# Altium footprint library Button_Switch_THT.PcbLib: 106 footprints (part 1 of 7)
Each footprint in its own frame and in the unit in brackets; x right, y up, seen from the top. Pads: shape width x height; smd on the part's side, far side on the other; paste and mask are expansions set on the pad; w line width, h text height; cw(c..) or ccw(c..) is an arc to the next point about the centre after c.
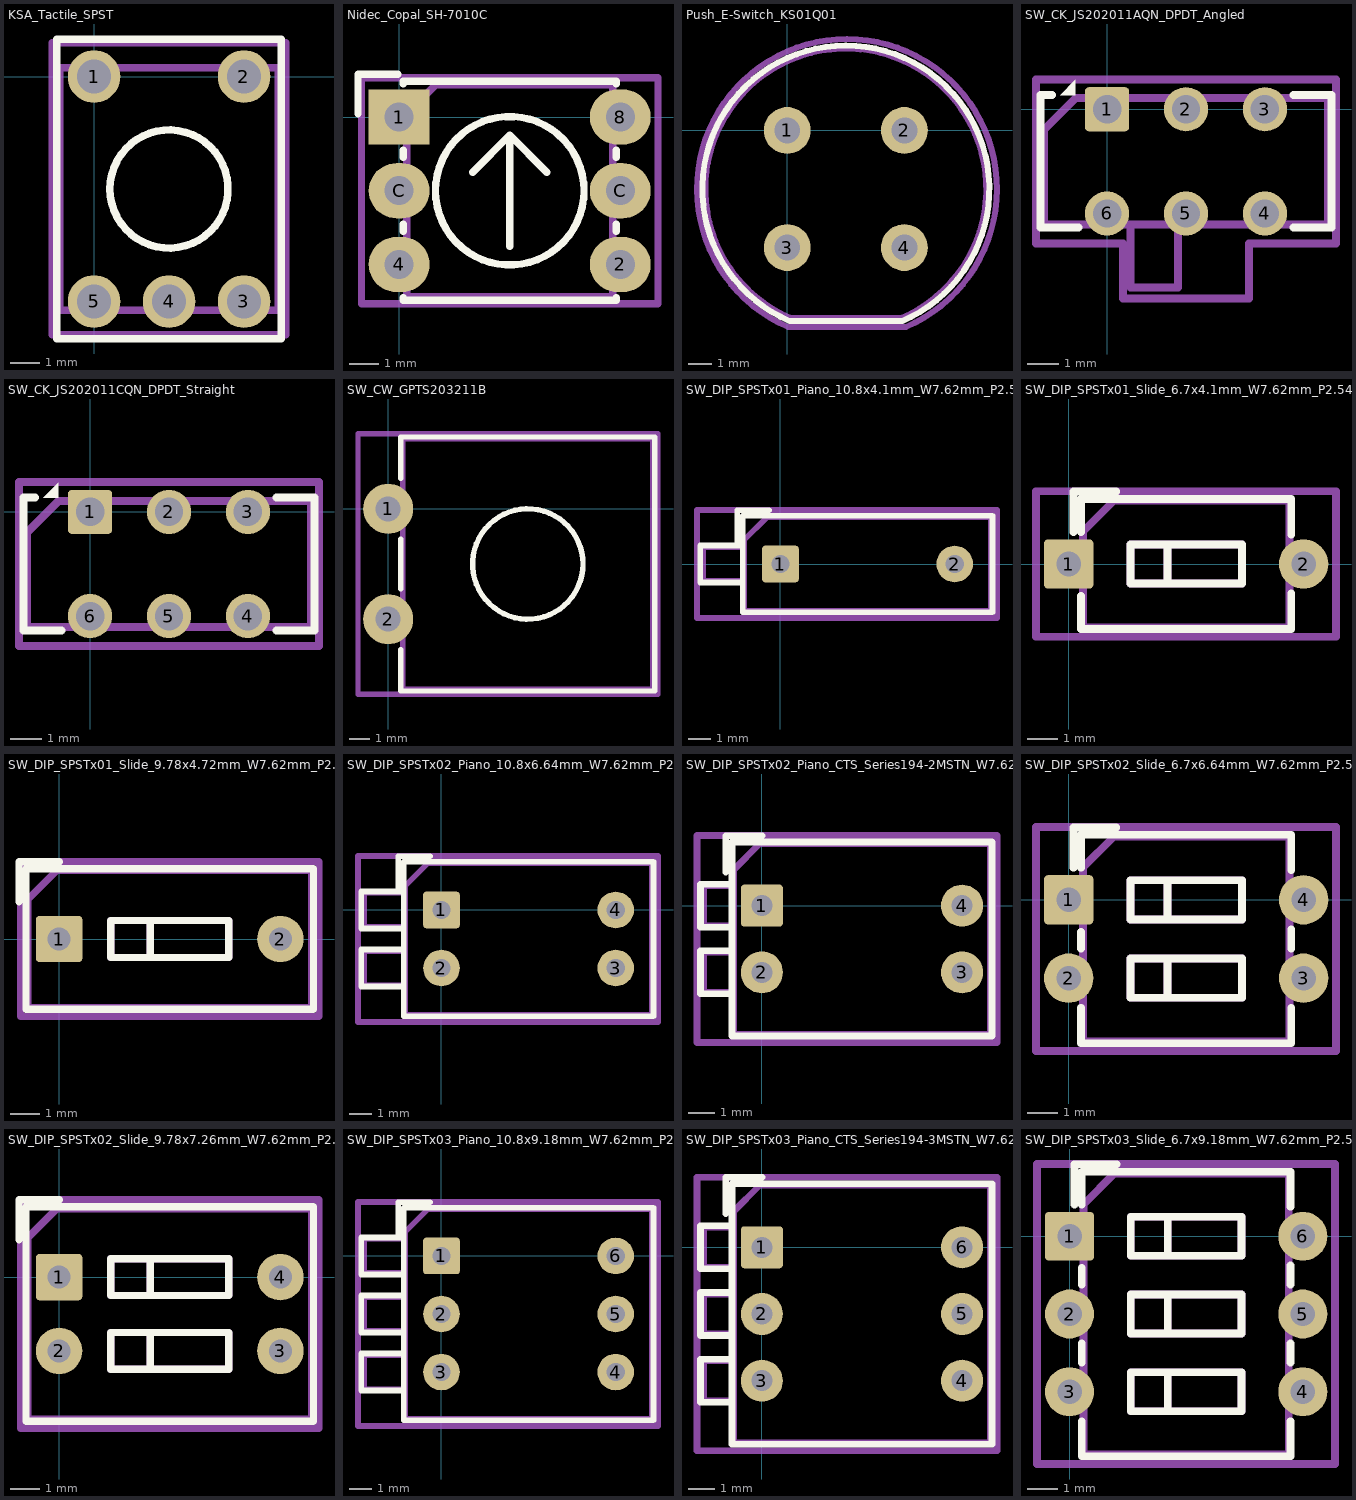
[diagram p0: the footprints below, top view; thin cyan lines are the x and y axes]

## KSA_Tactile_SPST [mil]
pads (5):
  round 70 hole 45: 1(0,0) 2(200,0) 3(200,-300) 4(100,-300) 5(0,-300)
F.SilkS:
  circle w10: c100,-150 r78.74
  lines w10: -50,-350 -50,50 250,50 250,-350 -50,-350
F.Fab:
  lines w10: -45.67,-311.42 -45.67,11.42 245.67,11.42 245.67,-311.42 -45.67,-311.42
  text "'.Designator'" at -59.32,-190.56 h39.37
F.CrtYd:
  lines w10: -55.51,-344.49 -55.51,44.88 255.51,44.88 255.51,-344.49 -55.51,-344.49

## Nidec_Copal_SH-7010C [mm]
pads (6):
  rect 2.1x1.9 hole 1: 1(0,0)
  rrect100% 2.1x1.9 hole 1: 2(7.62,-5.08) 4(0,-5.08) 8(7.62,0) C(0,-2.54) C(7.62,-2.54)
F.SilkS:
  circle w0.254: c3.81,-2.54 r2.56
  lines w0.254: -1.42,0.11 -1.42,1.48 -0.05,1.48 ; 0.14,-6.23 0.14,-6.31 7.48,-6.31 7.48,-6.23 ; 0.14,-3.93 0.14,-3.69 ; 0.14,-1.39 0.14,-1.15 ; 0.14,1.15 0.14,1.23 7.48,1.23 7.48,1.15 ; 2.53,-1.9 3.81,-0.62 ; 3.81,-4.46 3.81,-0.62 ; 5.09,-1.9 3.81,-0.62 ; 7.48,-3.93 7.48,-3.69 ; 7.48,-1.39 7.48,-1.15
F.Fab:
  lines w0.254: 0.26,-6.19 0.26,0.11 1.26,1.11 7.36,1.11 7.36,-6.19 0.26,-6.19
  text "'.Designator'" at -0.237,-3.38 h1
F.CrtYd:
  lines w0.254: -1.3,-6.44 -1.3,1.36 8.92,1.36 8.92,-6.44 -1.3,-6.44

## Push_E-Switch_KS01Q01 [mm]
pads (4):
  round 2 hole 1.1: 1(0,0) 2(5,0) 3(0,-5) 4(5,-5)
F.SilkS:
  lines w0.254: 4.89,-8.14 0.11,-8.14 cw(c2.5,-2.5) 4.897,-8.137
F.Fab:
  lines w0.254: 4.89,-8 0.11,-8 cw(c2.5,-2.5) 4.892,-7.999
  text "'.Designator'" at -1.547,-3.34 h1
F.CrtYd:
  lines w0.254: 0.04,-8.39 5.06,-8.39 ccw(c2.55,-2.5) 0.04,-8.39

## SW_CK_JS202011AQN_DPDT_Angled [mm]
pads (6):
  rrect18% 1.4x1.4 hole 0.9: 1(0,0)
  round 1.4 hole 0.9: 2(2.5,0) 3(5,0) 4(5,-3.3) 5(2.5,-3.3) 6(0,-3.3)
F.SilkS:
  region: -1,0.45 -1.48,0.45 -1,0.93
  lines w0.254: -1.75,0.45 -2.1,0.45 -2.1,-3.75 -0.9,-3.75 ; 5.9,-3.75 7.1,-3.75 7.1,0.45 5.9,0.45
F.Fab:
  lines w0.254: 0.75,-3.65 0.75,-5.65 2.25,-5.65 2.25,-3.65 ; -2,-3.65 -2,-0.65 -1,0.35 7,0.35 7,-3.65 -2,-3.65
  text "'.Designator'" at -1.547,-2.59 h1
F.CrtYd:
  lines w0.254: -2.25,-4.25 -2.25,0.95 7.25,0.95 7.25,-4.25 4.5,-4.25 4.5,-6 0.5,-6 0.5,-4.25 -2.25,-4.25

## SW_CK_JS202011CQN_DPDT_Straight [mm]
pads (6):
  rrect18% 1.4x1.4 hole 0.9: 1(0,0)
  round 1.4 hole 0.9: 2(2.5,0) 3(5,0) 4(5,-3.3) 5(2.5,-3.3) 6(0,-3.3)
F.SilkS:
  region: -1,0.45 -1.48,0.45 -1,0.93
  lines w0.254: -1.75,0.45 -2.1,0.45 -2.1,-3.75 -0.9,-3.75 ; 5.9,-3.75 7.1,-3.75 7.1,0.45 5.9,0.45
F.Fab:
  lines w0.254: -2,-3.65 -2,-0.65 -1,0.35 7,0.35 7,-3.65 -2,-3.65
  text "'.Designator'" at -1.547,-2.49 h1
F.CrtYd:
  lines w0.254: -2.25,-4.25 -2.25,0.95 7.25,0.95 7.25,-4.25 -2.25,-4.25

## SW_CW_GPTS203211B [mm]
pads (2):
  round 2.4 hole 1.2: 1(0,0) 2(0,-5.3)
F.SilkS:
  circle w0.254: c6.7,-2.65 r2.65
  lines w0.254: 0.6,-6.76 0.6,-8.75 12.8,-8.75 12.8,3.45 0.6,3.45 0.6,1.46 ; 0.6,-3.84 0.6,-1.46
F.Fab:
  lines w0.254: 0.7,-8.65 0.7,3.35 12.7,3.35 12.7,-8.65 0.7,-8.65
  text "'.Designator'" at 2.653,-3.49 h1
F.CrtYd:
  lines w0.254: -1.45,-8.9 -1.45,3.6 12.95,3.6 12.95,-8.9 -1.45,-8.9

## SW_DIP_SPSTx01_Piano_10.8x4.1mm_W7.62mm_P2.54mm [mm]
pads (2):
  rrect16% 1.6x1.6 hole 0.8: 1(0,0)
  round 1.6 hole 0.8: 2(7.62,0)
F.SilkS:
  lines w0.254: -1.89,0.967 -1.89,2.35 -0.507,2.35 ; -3.51,-0.81 -3.51,0.81 -1.65,0.81 -1.65,-0.81 -3.51,-0.81 ; -1.65,-2.11 -1.65,2.11 9.27,2.11 9.27,-2.11 -1.65,-2.11
F.Fab:
  lines w0.254: -3.39,-0.75 -3.39,0.75 -1.59,0.75 -1.59,-0.75 -3.39,-0.75 ; -1.59,-2.05 -1.59,1.05 -0.59,2.05 9.21,2.05 9.21,-2.05 -1.59,-2.05
  text "'.Designator'" at 1.382,-0.504 h0.6
F.CrtYd:
  lines w0.254: -3.65,-2.36 -3.65,2.36 9.47,2.36 9.47,-2.36 -3.65,-2.36

## SW_DIP_SPSTx01_Slide_6.7x4.1mm_W7.62mm_P2.54mm_LowProfile [mm]
pads (2):
  rrect16% 1.6x1.6 hole 0.8: 1(0,0)
  round 1.6 hole 0.8: 2(7.62,0)
F.SilkS:
  lines w0.254: 0.16,1.04 0.16,2.35 1.543,2.35 ; 0.4,-1.04 0.4,-2.11 7.22,-2.11 7.22,-0.96 ; 0.4,1.04 0.4,2.11 7.22,2.11 7.22,0.96 ; 2,-0.635 2,0.635 ; 2,-0.635 3.207,-0.635 ; 2,-0.635 2,0.635 ; 2,-0.635 5.62,-0.635 5.62,0.635 2,0.635 ; 2,0.635 3.207,0.635 ; 3.207,-0.635 3.207,0.635 ; 3.207,-0.635 3.207,0.635
F.Fab:
  lines w0.254: 2,-0.635 2,0.635 ; 2,-0.635 3.207,-0.635 ; 2,-0.635 2,0.635 ; 2,-0.635 5.62,-0.635 5.62,0.635 2,0.635 ; 2,0.635 3.207,0.635 ; 3.207,-0.635 3.207,0.635 ; 3.207,-0.635 3.207,0.635 ; 0.46,-2.05 0.46,1.05 1.46,2.05 7.16,2.05 7.16,-2.05 0.46,-2.05
  text "'.Designator'" at 6.894,-2.428 h0.6
  text "on" at 3.987,1.053 h0.6
F.CrtYd:
  lines w0.254: -1.06,-2.36 -1.06,2.36 8.67,2.36 8.67,-2.36 -1.06,-2.36

## SW_DIP_SPSTx01_Slide_9.78x4.72mm_W7.62mm_P2.54mm [mm]
pads (2):
  rrect16% 1.6x1.6 hole 0.8: 1(0,0)
  round 1.6 hole 0.8: 2(7.62,0)
F.SilkS:
  lines w0.254: -1.38,1.277 -1.38,2.66 0.003,2.66 ; 1.78,-0.635 1.78,0.635 ; 1.78,-0.635 3.133,-0.635 ; 1.78,-0.635 1.78,0.635 ; 1.78,-0.635 5.84,-0.635 5.84,0.635 1.78,0.635 ; 1.78,0.635 3.133,0.635 ; 3.133,-0.635 3.133,0.635 ; 3.133,-0.635 3.133,0.635 ; -1.14,-2.42 -1.14,2.42 8.76,2.42 8.76,-2.42 -1.14,-2.42
F.Fab:
  lines w0.254: 1.78,-0.635 1.78,0.635 ; 1.78,-0.635 3.133,-0.635 ; 1.78,-0.635 1.78,0.635 ; 1.78,-0.635 5.84,-0.635 5.84,0.635 1.78,0.635 ; 1.78,0.635 3.133,0.635 ; 3.133,-0.635 3.133,0.635 ; 3.133,-0.635 3.133,0.635 ; -1.08,-2.36 -1.08,1.36 -0.08,2.36 8.7,2.36 8.7,-2.36 -1.08,-2.36
  text "'.Designator'" at 7.774,-2.428 h0.6
  text "on" at 4.867,1.208 h0.6
F.CrtYd:
  lines w0.254: -1.33,-2.67 -1.33,2.67 8.95,2.67 8.95,-2.67 -1.33,-2.67

## SW_DIP_SPSTx02_Piano_10.8x6.64mm_W7.62mm_P2.54mm [mm]
pads (4):
  rrect16% 1.6x1.6 hole 0.8: 1(0,0)
  round 1.6 hole 0.8: 2(0,-2.54) 3(7.62,-2.54) 4(7.62,0)
F.SilkS:
  lines w0.254: -1.89,0.967 -1.89,2.35 -0.507,2.35 ; -3.51,-3.35 -3.51,-1.73 -1.65,-1.73 -1.65,-3.35 -3.51,-3.35 ; -3.51,-0.81 -3.51,0.81 -1.65,0.81 -1.65,-0.81 -3.51,-0.81 ; -1.65,-4.65 -1.65,2.11 9.27,2.11 9.27,-4.65 -1.65,-4.65
F.Fab:
  lines w0.254: -3.39,-3.29 -3.39,-1.79 -1.59,-1.79 -1.59,-3.29 -3.39,-3.29 ; -3.39,-0.75 -3.39,0.75 -1.59,0.75 -1.59,-0.75 -3.39,-0.75 ; -1.59,-4.59 -1.59,1.05 -0.59,2.05 9.21,2.05 9.21,-4.59 -1.59,-4.59
  text "'.Designator'" at 0.573,-1.942 h0.8
F.CrtYd:
  lines w0.254: -3.65,-4.9 -3.65,2.36 9.47,2.36 9.47,-4.9 -3.65,-4.9

## SW_DIP_SPSTx02_Piano_CTS_Series194-2MSTN_W7.62mm_P2.54mm [mm]
pads (4):
  rrect16% 1.6x1.6 hole 0.8: 1(0,0)
  round 1.6 hole 0.8: 2(0,-2.54) 3(7.62,-2.54) 4(7.62,0)
F.SilkS:
  lines w0.254: -1.38,1.277 -1.38,2.66 0.003,2.66 ; -2.34,-3.36 -2.34,-1.72 -1.14,-1.72 -1.14,-3.36 -2.34,-3.36 ; -2.34,-0.82 -2.34,0.82 -1.14,0.82 -1.14,-0.82 -2.34,-0.82 ; -1.14,-4.96 -1.14,2.42 8.76,2.42 8.76,-4.96 -1.14,-4.96
F.Fab:
  lines w0.254: -2.22,-3.3 -2.22,-1.78 -1.08,-1.78 -1.08,-3.3 -2.22,-3.3 ; -2.22,-0.76 -2.22,0.76 -1.08,0.76 -1.08,-0.76 -2.22,-0.76 ; -1.08,-4.9 -1.08,1.36 -0.08,2.36 8.7,2.36 8.7,-4.9 -1.08,-4.9
  text "'.Designator'" at 0.573,-1.942 h0.8
F.CrtYd:
  lines w0.254: -2.47,-5.21 -2.47,2.67 8.95,2.67 8.95,-5.21 -2.47,-5.21

## SW_DIP_SPSTx02_Slide_6.7x6.64mm_W7.62mm_P2.54mm_LowProfile [mm]
pads (4):
  rrect16% 1.6x1.6 hole 0.8: 1(0,0)
  round 1.6 hole 0.8: 2(0,-2.54) 3(7.62,-2.54) 4(7.62,0)
F.SilkS:
  lines w0.254: 0.16,1.04 0.16,2.35 1.543,2.35 ; 0.4,-3.5 0.4,-4.65 7.22,-4.65 7.22,-3.5 ; 0.4,-1.58 0.4,-1.04 ; 0.4,1.04 0.4,2.11 7.22,2.11 7.22,0.96 ; 7.22,-1.58 7.22,-0.96 ; 2,-3.175 2,-1.905 ; 2,-3.175 3.207,-3.175 ; 2,-3.175 2,-1.905 ; 2,-3.175 5.62,-3.175 5.62,-1.905 2,-1.905 ; 2,-1.905 3.207,-1.905 ; 2,-0.635 2,0.635 ; 2,-0.635 3.207,-0.635 ; 2,-0.635 2,0.635 ; 2,-0.635 5.62,-0.635 5.62,0.635 2,0.635 ; 2,0.635 3.207,0.635 ; 3.207,-3.175 3.207,-1.905 ; 3.207,-3.175 3.207,-1.905 ; 3.207,-0.635 3.207,0.635 ; 3.207,-0.635 3.207,0.635
F.Fab:
  lines w0.254: 2,-3.175 2,-1.905 ; 2,-3.175 3.207,-3.175 ; 2,-3.175 2,-1.905 ; 2,-3.175 5.62,-3.175 5.62,-1.905 2,-1.905 ; 2,-1.905 3.207,-1.905 ; 2,-0.635 2,0.635 ; 2,-0.635 3.207,-0.635 ; 2,-0.635 2,0.635 ; 2,-0.635 5.62,-0.635 5.62,0.635 2,0.635 ; 2,0.635 3.207,0.635 ; 3.207,-3.175 3.207,-1.905 ; 3.207,-3.175 3.207,-1.905 ; 3.207,-0.635 3.207,0.635 ; 3.207,-0.635 3.207,0.635 ; 0.46,-4.59 0.46,1.05 1.46,2.05 7.16,2.05 7.16,-4.59 0.46,-4.59
  text "'.Designator'" at 7.062,-4.507 h0.8
  text "on" at 3.82,0.956 h0.8
F.CrtYd:
  lines w0.254: -1.06,-4.9 -1.06,2.36 8.67,2.36 8.67,-4.9 -1.06,-4.9

## SW_DIP_SPSTx02_Slide_9.78x7.26mm_W7.62mm_P2.54mm [mm]
pads (4):
  rrect16% 1.6x1.6 hole 0.8: 1(0,0)
  round 1.6 hole 0.8: 2(0,-2.54) 3(7.62,-2.54) 4(7.62,0)
F.SilkS:
  lines w0.254: -1.38,1.277 -1.38,2.66 0.003,2.66 ; 1.78,-3.175 1.78,-1.905 ; 1.78,-3.175 3.133,-3.175 ; 1.78,-3.175 1.78,-1.905 ; 1.78,-3.175 5.84,-3.175 5.84,-1.905 1.78,-1.905 ; 1.78,-1.905 3.133,-1.905 ; 1.78,-0.635 1.78,0.635 ; 1.78,-0.635 3.133,-0.635 ; 1.78,-0.635 1.78,0.635 ; 1.78,-0.635 5.84,-0.635 5.84,0.635 1.78,0.635 ; 1.78,0.635 3.133,0.635 ; 3.133,-3.175 3.133,-1.905 ; 3.133,-3.175 3.133,-1.905 ; 3.133,-0.635 3.133,0.635 ; 3.133,-0.635 3.133,0.635 ; -1.14,-4.96 -1.14,2.42 8.76,2.42 8.76,-4.96 -1.14,-4.96
F.Fab:
  lines w0.254: 1.78,-3.175 1.78,-1.905 ; 1.78,-3.175 3.133,-3.175 ; 1.78,-3.175 1.78,-1.905 ; 1.78,-3.175 5.84,-3.175 5.84,-1.905 1.78,-1.905 ; 1.78,-1.905 3.133,-1.905 ; 1.78,-0.635 1.78,0.635 ; 1.78,-0.635 3.133,-0.635 ; 1.78,-0.635 1.78,0.635 ; 1.78,-0.635 5.84,-0.635 5.84,0.635 1.78,0.635 ; 1.78,0.635 3.133,0.635 ; 3.133,-3.175 3.133,-1.905 ; 3.133,-3.175 3.133,-1.905 ; 3.133,-0.635 3.133,0.635 ; 3.133,-0.635 3.133,0.635 ; -1.08,-4.9 -1.08,1.36 -0.08,2.36 8.7,2.36 8.7,-4.9 -1.08,-4.9
  text "'.Designator'" at 7.942,-4.507 h0.8
  text "on" at 4.7,1.111 h0.8
F.CrtYd:
  lines w0.254: -1.33,-5.21 -1.33,2.67 8.95,2.67 8.95,-5.21 -1.33,-5.21

## SW_DIP_SPSTx03_Piano_10.8x9.18mm_W7.62mm_P2.54mm [mm]
pads (6):
  rrect16% 1.6x1.6 hole 0.8: 1(0,0)
  round 1.6 hole 0.8: 2(0,-2.54) 3(0,-5.08) 4(7.62,-5.08) 5(7.62,-2.54) 6(7.62,0)
F.SilkS:
  lines w0.254: -1.89,0.967 -1.89,2.35 -0.507,2.35 ; -3.51,-5.89 -3.51,-4.27 -1.65,-4.27 -1.65,-5.89 -3.51,-5.89 ; -3.51,-3.35 -3.51,-1.73 -1.65,-1.73 -1.65,-3.35 -3.51,-3.35 ; -3.51,-0.81 -3.51,0.81 -1.65,0.81 -1.65,-0.81 -3.51,-0.81 ; -1.65,-7.19 -1.65,2.11 9.27,2.11 9.27,-7.19 -1.65,-7.19
F.Fab:
  lines w0.254: -3.39,-5.83 -3.39,-4.33 -1.59,-4.33 -1.59,-5.83 -3.39,-5.83 ; -3.39,-3.29 -3.39,-1.79 -1.59,-1.79 -1.59,-3.29 -3.39,-3.29 ; -3.39,-0.75 -3.39,0.75 -1.59,0.75 -1.59,-0.75 -3.39,-0.75 ; -1.59,-7.13 -1.59,1.05 -0.59,2.05 9.21,2.05 9.21,-7.13 -1.59,-7.13
  text "'.Designator'" at 0.573,-3.212 h0.8
F.CrtYd:
  lines w0.254: -3.65,-7.44 -3.65,2.36 9.47,2.36 9.47,-7.44 -3.65,-7.44

## SW_DIP_SPSTx03_Piano_CTS_Series194-3MSTN_W7.62mm_P2.54mm [mm]
pads (6):
  rrect16% 1.6x1.6 hole 0.8: 1(0,0)
  round 1.6 hole 0.8: 2(0,-2.54) 3(0,-5.08) 4(7.62,-5.08) 5(7.62,-2.54) 6(7.62,0)
F.SilkS:
  lines w0.254: -1.38,1.277 -1.38,2.66 0.003,2.66 ; -2.34,-5.9 -2.34,-4.26 -1.14,-4.26 -1.14,-5.9 -2.34,-5.9 ; -2.34,-3.36 -2.34,-1.72 -1.14,-1.72 -1.14,-3.36 -2.34,-3.36 ; -2.34,-0.82 -2.34,0.82 -1.14,0.82 -1.14,-0.82 -2.34,-0.82 ; -1.14,-7.5 -1.14,2.42 8.76,2.42 8.76,-7.5 -1.14,-7.5
F.Fab:
  lines w0.254: -2.22,-5.84 -2.22,-4.32 -1.08,-4.32 -1.08,-5.84 -2.22,-5.84 ; -2.22,-3.3 -2.22,-1.78 -1.08,-1.78 -1.08,-3.3 -2.22,-3.3 ; -2.22,-0.76 -2.22,0.76 -1.08,0.76 -1.08,-0.76 -2.22,-0.76 ; -1.08,-7.44 -1.08,1.36 -0.08,2.36 8.7,2.36 8.7,-7.44 -1.08,-7.44
  text "'.Designator'" at 0.573,-3.212 h0.8
F.CrtYd:
  lines w0.254: -2.47,-7.75 -2.47,2.67 8.95,2.67 8.95,-7.75 -2.47,-7.75

## SW_DIP_SPSTx03_Slide_6.7x9.18mm_W7.62mm_P2.54mm_LowProfile [mm]
pads (6):
  rrect16% 1.6x1.6 hole 0.8: 1(0,0)
  round 1.6 hole 0.8: 2(0,-2.54) 3(0,-5.08) 4(7.62,-5.08) 5(7.62,-2.54) 6(7.62,0)
F.SilkS:
  lines w0.254: 0.16,1.04 0.16,2.35 1.543,2.35 ; 0.4,-6.04 0.4,-7.19 7.22,-7.19 7.22,-6.04 ; 0.4,-4.12 0.4,-3.5 ; 0.4,-1.58 0.4,-1.04 ; 0.4,1.04 0.4,2.11 7.22,2.11 7.22,0.96 ; 7.22,-4.12 7.22,-3.5 ; 7.22,-1.58 7.22,-0.96 ; 2,-5.715 2,-4.445 ; 2,-5.715 3.207,-5.715 ; 2,-5.715 2,-4.445 ; 2,-5.715 5.62,-5.715 5.62,-4.445 2,-4.445 ; 2,-4.445 3.207,-4.445 ; 2,-3.175 2,-1.905 ; 2,-3.175 3.207,-3.175 ; 2,-3.175 2,-1.905 ; 2,-3.175 5.62,-3.175 5.62,-1.905 2,-1.905 ; 2,-1.905 3.207,-1.905 ; 2,-0.635 2,0.635 ; 2,-0.635 3.207,-0.635 ; 2,-0.635 2,0.635 ; 2,-0.635 5.62,-0.635 5.62,0.635 2,0.635 ; 2,0.635 3.207,0.635 ; 3.207,-5.715 3.207,-4.445 ; 3.207,-5.715 3.207,-4.445 ; 3.207,-3.175 3.207,-1.905 ; 3.207,-3.175 3.207,-1.905 ; 3.207,-0.635 3.207,0.635 ; 3.207,-0.635 3.207,0.635
F.Fab:
  lines w0.254: 2,-5.715 2,-4.445 ; 2,-5.715 3.207,-5.715 ; 2,-5.715 2,-4.445 ; 2,-5.715 5.62,-5.715 5.62,-4.445 2,-4.445 ; 2,-4.445 3.207,-4.445 ; 2,-3.175 2,-1.905 ; 2,-3.175 3.207,-3.175 ; 2,-3.175 2,-1.905 ; 2,-3.175 5.62,-3.175 5.62,-1.905 2,-1.905 ; 2,-1.905 3.207,-1.905 ; 2,-0.635 2,0.635 ; 2,-0.635 3.207,-0.635 ; 2,-0.635 2,0.635 ; 2,-0.635 5.62,-0.635 5.62,0.635 2,0.635 ; 2,0.635 3.207,0.635 ; 3.207,-5.715 3.207,-4.445 ; 3.207,-5.715 3.207,-4.445 ; 3.207,-3.175 3.207,-1.905 ; 3.207,-3.175 3.207,-1.905 ; 3.207,-0.635 3.207,0.635 ; 3.207,-0.635 3.207,0.635 ; 0.46,-7.13 0.46,1.05 1.46,2.05 7.16,2.05 7.16,-7.13 0.46,-7.13
  text "'.Designator'" at 7.062,-5.777 h0.8
  text "on" at 3.82,0.956 h0.8
F.CrtYd:
  lines w0.254: -1.06,-7.44 -1.06,2.36 8.67,2.36 8.67,-7.44 -1.06,-7.44